# Altium footprint library SMD_JMP_0603.PcbLib: 1 footprints
Each footprint in its own frame and in the unit in brackets; x right, y up, seen from the top. Pads: shape width x height; smd on the part's side, far side on the other; paste and mask are expansions set on the pad; w line width, h text height; cw(c..) or ccw(c..) is an arc to the next point about the centre after c.
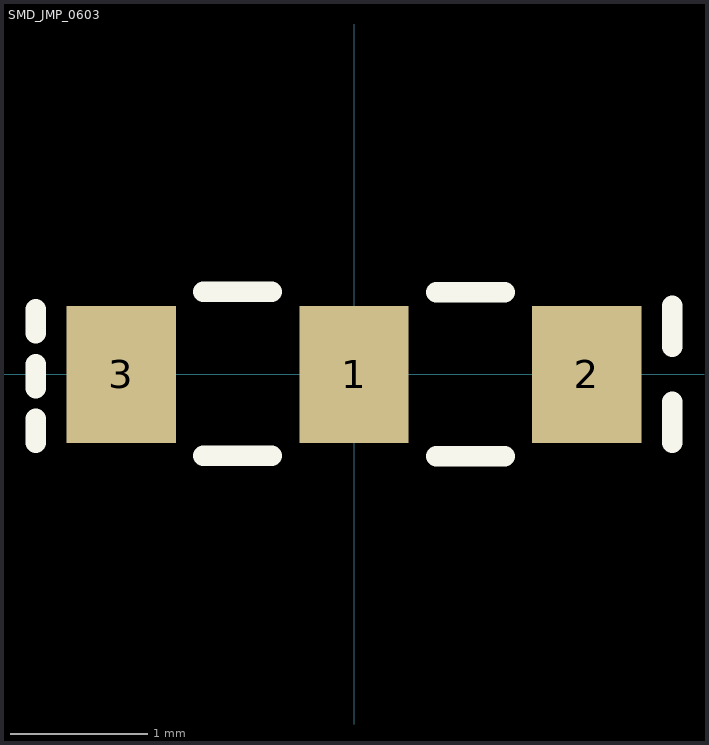
[diagram p0: the footprint, top view; thin cyan lines are the x and y axes]

## SMD_JMP_0603 [mm]
pads (3):
  rect 0.8x1 smd: 1(0,0) 2(1.7,0) 3(-1.7,0)
Top Overlay:
  lines w0.15: -2.325,-0.5 -2.325,-0.325 ; -2.325,-0.1 -2.325,0.075 ; -2.325,0.3 -2.325,0.475 ; -1.101,-0.595 -0.601,-0.595 ; -1.101,0.605 -0.601,0.605 ; 0.6,-0.6 1.1,-0.6 ; 0.6,0.6 1.1,0.6 ; 2.325,-0.5 2.325,-0.2 ; 2.325,0.2 2.325,0.5
Mechanical 15:
  text ".Designator" at -2.075,-0.217 h0.7
3D body "SMD_RLC_0603.STEP": height 0.43, standoff -0.02, extent 0.037,-0.423 1.677,0.427